# Altium footprint library Package_TO_SOT_SMD.PcbLib: 132 footprints (part 8 of 9)
Each footprint in its own frame and in the unit in brackets; x right, y up, seen from the top. Pads: shape width x height; smd on the part's side, far side on the other; paste and mask are expansions set on the pad; w line width, h text height; cw(c..) or ccw(c..) is an arc to the next point about the centre after c.
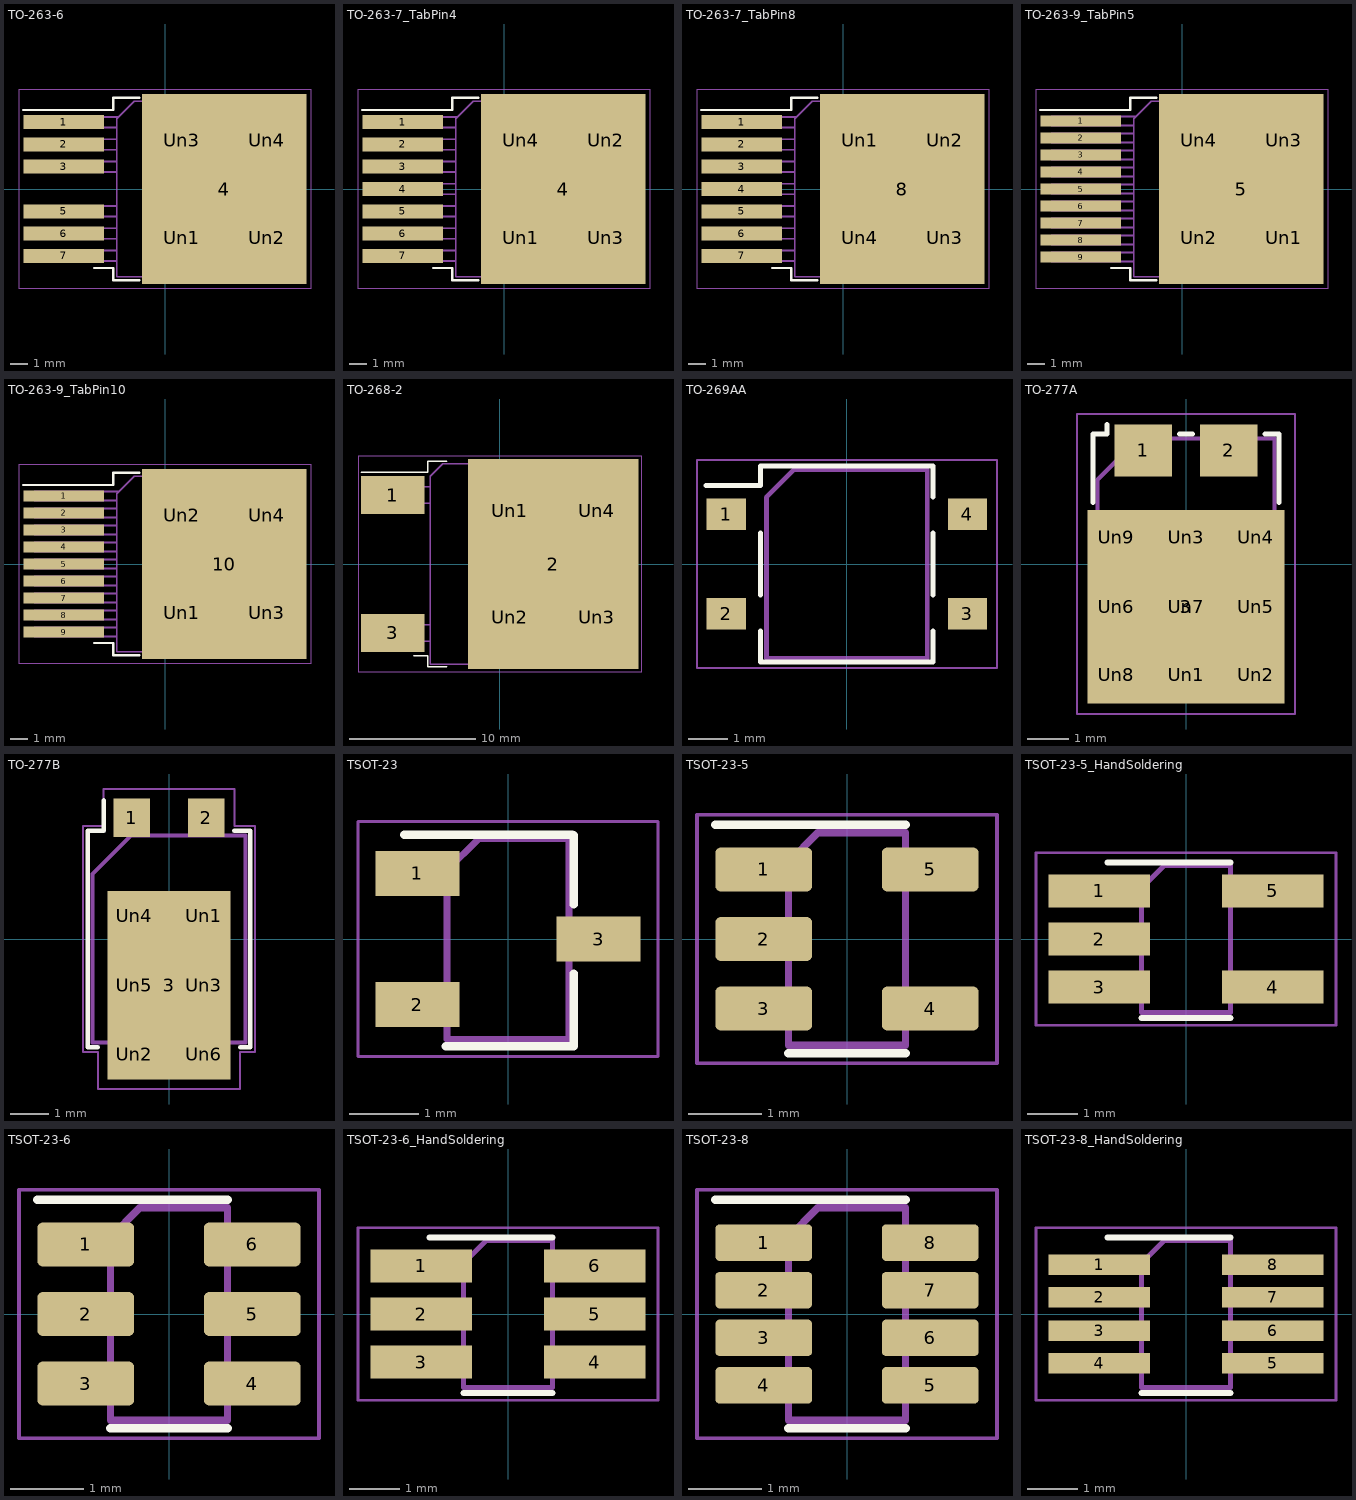
[diagram p7: the footprints below, top view; thin cyan lines are the x and y axes]

## TO-263-6 [mm]
pads (11):
  rect 4.6x0.8 smd: 1(-5.775,3.81) 2(-5.775,2.54) 3(-5.775,1.27) 5(-5.775,-1.27) 6(-5.775,-2.54) 7(-5.775,-3.81)
  rect 9.4x10.8 smd: 4(3.375,0)
  rect 4.55x5.25 on Top Paste: Un1(0.95,-2.775) Un2(5.8,-2.775) Un3(0.95,2.775) Un4(5.8,2.775)
F.SilkS:
  lines w0.12: -8.075,4.51 -2.95,4.51 -2.95,5.2 -1.45,5.2 ; -4.05,-4.51 -2.95,-4.51 -2.95,-5.2 -1.45,-5.2
F.CrtYd:
  lines w0.05: -8.32,-5.65 -8.32,5.65 8.32,5.65 8.32,-5.65 -8.32,-5.65
F.Fab:
  lines w0.1: -2.75,-4.11 -7.45,-4.11 -7.45,-3.51 -2.75,-3.51 ; -2.75,-2.84 -7.45,-2.84 -7.45,-2.24 -2.75,-2.24 ; -2.75,-1.57 -7.45,-1.57 -7.45,-0.97 -2.75,-0.97 ; -2.75,0.97 -7.45,0.97 -7.45,1.57 -2.75,1.57 ; -2.75,2.24 -7.45,2.24 -7.45,2.84 -2.75,2.84 ; -2.75,3.51 -7.45,3.51 -7.45,4.11 -2.64,4.11 ; 6.5,-5 -2.75,-5 -2.75,4 -1.75,5 6.5,5 ; 6.5,-5 6.5,5 ; 6.5,-5 7.5,-5 7.5,5 6.5,5
  text "'.Designator'" at -4.047,-0.84 h1

## TO-263-7_TabPin4 [mm]
pads (12):
  rect 4.6x0.8 smd: 1(-5.775,3.81) 2(-5.775,2.54) 3(-5.775,1.27) 4(-5.775,0) 5(-5.775,-1.27) 6(-5.775,-2.54) 7(-5.775,-3.81)
  rect 9.4x10.8 smd: 4(3.375,0)
  rect 4.55x5.25 on Top Paste: Un1(0.95,-2.775) Un2(5.8,2.775) Un3(5.8,-2.775) Un4(0.95,2.775)
F.SilkS:
  lines w0.12: -8.075,4.51 -2.95,4.51 -2.95,5.2 -1.45,5.2 ; -4.05,-4.51 -2.95,-4.51 -2.95,-5.2 -1.45,-5.2
F.CrtYd:
  lines w0.05: -8.32,-5.65 8.32,-5.65 8.32,5.65 -8.32,5.65 -8.32,-5.65
F.Fab:
  lines w0.1: -2.75,-4.11 -7.45,-4.11 -7.45,-3.51 -2.75,-3.51 ; -2.75,-2.84 -7.45,-2.84 -7.45,-2.24 -2.75,-2.24 ; -2.75,-1.57 -7.45,-1.57 -7.45,-0.97 -2.75,-0.97 ; -2.75,-0.3 -7.45,-0.3 -7.45,0.3 -2.75,0.3 ; -2.75,0.97 -7.45,0.97 -7.45,1.57 -2.75,1.57 ; -2.75,2.24 -7.45,2.24 -7.45,2.84 -2.75,2.84 ; -2.75,3.51 -7.45,3.51 -7.45,4.11 -2.64,4.11 ; 6.5,-5 -2.75,-5 -2.75,4 -1.75,5 6.5,5 ; 6.5,-5 7.5,-5 7.5,5 6.5,5 ; 6.5,-5 6.5,5
  text "'.Designator'" at -4.047,-0.84 h1

## TO-263-7_TabPin8 [mm]
pads (12):
  rect 4.6x0.8 smd: 1(-5.775,3.81) 2(-5.775,2.54) 3(-5.775,1.27) 4(-5.775,0) 5(-5.775,-1.27) 6(-5.775,-2.54) 7(-5.775,-3.81)
  rect 9.4x10.8 smd: 8(3.375,0)
  rect 4.55x5.25 on Top Paste: Un1(0.95,2.775) Un2(5.8,2.775) Un3(5.8,-2.775) Un4(0.95,-2.775)
F.SilkS:
  lines w0.12: -8.075,4.51 -2.95,4.51 -2.95,5.2 -1.45,5.2 ; -4.05,-4.51 -2.95,-4.51 -2.95,-5.2 -1.45,-5.2
F.CrtYd:
  lines w0.05: -8.32,-5.65 8.32,-5.65 8.32,5.65 -8.32,5.65 -8.32,-5.65
F.Fab:
  lines w0.1: -2.75,-4.11 -7.45,-4.11 -7.45,-3.51 -2.75,-3.51 ; -2.75,-2.84 -7.45,-2.84 -7.45,-2.24 -2.75,-2.24 ; -2.75,-1.57 -7.45,-1.57 -7.45,-0.97 -2.75,-0.97 ; -2.75,-0.3 -7.45,-0.3 -7.45,0.3 -2.75,0.3 ; -2.75,0.97 -7.45,0.97 -7.45,1.57 -2.75,1.57 ; -2.75,2.24 -7.45,2.24 -7.45,2.84 -2.75,2.84 ; -2.75,3.51 -7.45,3.51 -7.45,4.11 -2.64,4.11 ; 6.5,-5 7.5,-5 7.5,5 6.5,5 ; 6.5,-5 6.5,5 ; 6.5,-5 -2.75,-5 -2.75,4 -1.75,5 6.5,5
  text "'.Designator'" at -4.047,-0.84 h1

## TO-263-9_TabPin5 [mm]
pads (14):
  rect 4.6x0.61 smd: 1(-5.775,3.88) 2(-5.775,2.91) 3(-5.775,1.94) 4(-5.775,0.97) 5(-5.775,0) 6(-5.775,-0.97) 7(-5.775,-1.94) 8(-5.775,-2.91) 9(-5.775,-3.88)
  rect 9.4x10.8 smd: 5(3.375,0)
  rect 4.55x5.25 on Top Paste: Un1(5.8,-2.775) Un2(0.95,-2.775) Un3(5.8,2.775) Un4(0.95,2.775)
F.SilkS:
  lines w0.12: -8.075,4.51 -2.95,4.51 -2.95,5.2 -1.45,5.2 ; -4.05,-4.51 -2.95,-4.51 -2.95,-5.2 -1.45,-5.2
F.CrtYd:
  lines w0.05: -8.32,-5.65 -8.32,5.65 8.32,5.65 8.32,-5.65 -8.32,-5.65
F.Fab:
  lines w0.1: -2.75,-4.135 -7.45,-4.135 -7.45,-3.625 -2.75,-3.625 ; -2.75,-3.165 -7.45,-3.165 -7.45,-2.655 -2.75,-2.655 ; -2.75,-2.195 -7.45,-2.195 -7.45,-1.685 -2.75,-1.685 ; -2.75,-1.225 -7.45,-1.225 -7.45,-0.715 -2.75,-0.715 ; -2.75,-0.255 -7.45,-0.255 -7.45,0.255 -2.75,0.255 ; -2.75,0.715 -7.45,0.715 -7.45,1.225 -2.75,1.225 ; -2.75,1.685 -7.45,1.685 -7.45,2.195 -2.75,2.195 ; -2.75,2.655 -7.45,2.655 -7.45,3.165 -2.75,3.165 ; -2.75,3.625 -7.45,3.625 -7.45,4.135 -2.615,4.135 ; 6.5,-5 7.5,-5 7.5,5 6.5,5 ; 6.5,-5 6.5,5 ; 6.5,-5 -2.75,-5 -2.75,4 -1.75,5 6.5,5
  text "'.Designator'" at -4.047,-0.84 h1

## TO-263-9_TabPin10 [mm]
pads (14):
  rect 4.6x0.61 smd: 1(-5.775,3.88) 2(-5.775,2.91) 3(-5.775,1.94) 4(-5.775,0.97) 5(-5.775,0) 6(-5.775,-0.97) 7(-5.775,-1.94) 8(-5.775,-2.91) 9(-5.775,-3.88)
  rect 9.4x10.8 smd: 10(3.375,0)
  rect 4.55x5.25 on Top Paste: Un1(0.95,-2.775) Un2(0.95,2.775) Un3(5.8,-2.775) Un4(5.8,2.775)
F.SilkS:
  lines w0.12: -8.075,4.51 -2.95,4.51 -2.95,5.2 -1.45,5.2 ; -4.05,-4.51 -2.95,-4.51 -2.95,-5.2 -1.45,-5.2
F.CrtYd:
  lines w0.05: -8.32,-5.65 -8.32,5.65 8.32,5.65 8.32,-5.65 -8.32,-5.65
F.Fab:
  lines w0.1: -2.75,-4.135 -7.45,-4.135 -7.45,-3.625 -2.75,-3.625 ; -2.75,-3.165 -7.45,-3.165 -7.45,-2.655 -2.75,-2.655 ; -2.75,-2.195 -7.45,-2.195 -7.45,-1.685 -2.75,-1.685 ; -2.75,-1.225 -7.45,-1.225 -7.45,-0.715 -2.75,-0.715 ; -2.75,-0.255 -7.45,-0.255 -7.45,0.255 -2.75,0.255 ; -2.75,0.715 -7.45,0.715 -7.45,1.225 -2.75,1.225 ; -2.75,1.685 -7.45,1.685 -7.45,2.195 -2.75,2.195 ; -2.75,2.655 -7.45,2.655 -7.45,3.165 -2.75,3.165 ; -2.75,3.625 -7.45,3.625 -7.45,4.135 -2.615,4.135 ; 6.5,-5 7.5,-5 7.5,5 6.5,5 ; 6.5,-5 -2.75,-5 -2.75,4 -1.75,5 6.5,5 ; 6.5,-5 6.5,5
  text "'.Designator'" at -4.047,-0.84 h1

## TO-268-2 [mm]
pads (7):
  rect 5x3 smd: 1(-8.475,5.45) 3(-8.475,-5.45)
  rect 13.5x16.6 smd: 2(4.225,0)
  rect 6.6x8.15 on Top Paste: Un1(0.775,4.225) Un2(0.775,-4.225) Un3(7.675,-4.225) Un4(7.675,4.225)
F.SilkS:
  lines w0.12: -10.975,7.25 -5.7,7.25 -5.7,8.15 -4.2,8.15 ; -6.8,-7.25 -5.7,-7.25 -5.7,-8.15 -4.2,-8.15
F.CrtYd:
  lines w0.05: -11.23,-8.55 -11.23,8.55 11.23,8.55 11.23,-8.55 -11.23,-8.55
F.Fab:
  lines w0.1: -5.5,-6.1 -9.4,-6.1 -9.4,-4.8 -5.5,-4.8 ; -5.5,4.8 -9.4,4.8 -9.4,6.1 -5.5,6.1 ; 8.5,-7.95 8.5,7.95 ; 8.5,-7.95 9.5,-7.95 9.5,7.95 8.5,7.95 ; 8.5,-7.95 -5.5,-7.95 -5.5,6.95 -4.5,7.95 8.5,7.95
  text "'.Designator'" at -4.047,-0.84 h1

## TO-269AA [mm]
pads (4):
  rect 1x0.8 smd: 1(-3.075,1.27) 2(-3.075,-1.27) 3(3.075,-1.27) 4(3.075,1.27)
F.SilkS:
  lines w0.12: -3.6,2 -2.2,2 -2.2,2.5 2.2,2.5 2.2,1.7 ; -2.2,-1.7 -2.2,-2.5 2.2,-2.5 2.2,-1.7 ; -2.2,-0.8 -2.2,0.8 ; 2.2,-0.8 2.2,0.8
F.CrtYd:
  lines w0.05: -3.82,-2.65 3.83,-2.65 3.83,2.65 -3.82,2.65 -3.82,-2.65
F.Fab:
  lines w0.12: -2.05,-2.4 -2.05,1.7 -1.35,2.4 2.05,2.4 2.05,-2.4 -2.05,-2.4
  text "'.Designator'" at -4.047,-0.775 h1

## TO-277A [mm]
pads (12):
  rect 1.4x1.27 smd: 1(-1.04,2.765) 2(1.04,2.765)
  rect 4.8x4.72 smd: 3(0,-1.04)
  rect 1.25x1.2 on Top Paste: Un1(0,-2.7) Un2(1.7,-2.7) Un3(0,0.65) Un4(1.7,0.65) Un5(1.7,-1.04) Un6(-1.7,-1.04) Un7(0,-1.04) Un8(-1.7,-2.7) Un9(-1.7,0.65)
F.SilkS:
  lines w0.12: -2.26,1.5 -2.26,3.16 -1.92,3.16 -1.92,3.4 ; -0.16,3.16 0.16,3.16 ; 1.92,3.16 2.26,3.16 2.26,1.5
F.CrtYd:
  lines w0.05: -2.65,-3.65 2.65,-3.65 2.65,3.65 -2.65,3.65 -2.65,-3.65
F.Fab:
  lines w0.1: -2.15,-3.05 2.15,-3.05 2.15,3.05 -1.15,3.05 -2.15,2.05 -2.15,-3.05
  text "'.Designator'" at -4.047,-0.84 h1

## TO-277B [mm]
pads (9):
  rect 0.95x1 smd: 1(-0.97,3.15) 2(0.97,3.15)
  rect 3.2x4.9 smd: 3(0,-1.2)
  rect 1.3x1.2 on Top Paste: Un1(0.9,0.6) Un2(-0.9,-3) Un3(0.9,-1.2) Un4(-0.9,0.6) Un5(-0.9,-1.2) Un6(0.9,-3)
F.SilkS:
  lines w0.12: -1.85,-2.81 -2.11,-2.81 -2.11,2.81 -1.7,2.81 -1.7,3.6 ; 1.7,2.81 2.11,2.81 2.11,-2.81 1.85,-2.81
F.CrtYd:
  lines w0.05: -2.24,-2.94 -1.85,-2.94 -1.85,-3.9 1.85,-3.9 1.85,-2.94 2.24,-2.94 2.24,2.94 1.7,2.94 1.7,3.9 -1.7,3.9 -1.7,2.94 -2.24,2.94 -2.24,-2.94
F.Fab:
  lines w0.1: -1,2.69 1.99,2.69 1.99,-2.69 -1.99,-2.69 -1.99,1.69 -0.99,2.69
  text "'.Designator'" at -3.657,-0.771 h0.9

## TSOT-23 [mm]
pads (3):
  rect 1.22x0.65 smd: 1(-1.31,0.95) 2(-1.31,-0.95) 3(1.31,0)
F.SilkS:
  lines w0.12: -1.5,1.51 0.93,1.51 ; -0.9,-1.55 0.95,-1.55 0.95,-0.5 ; 0.95,0.5 0.95,1.5
F.CrtYd:
  lines w0.05: -2.17,-1.7 -2.17,1.7 2.17,1.7 2.17,-1.7 -2.17,-1.7
F.Fab:
  lines w0.1: -0.88,-1.45 0.88,-1.45 0.88,1.45 -0.43,1.45 -0.88,1 -0.88,-1.45
  text "'.Designator'" at 0.42,-2.023 h0.5

## TSOT-23-5 [mm]
pads (5):
  rrect25% 1.325x0.6 smd: 1(-1.138,0.95) 2(-1.138,0) 3(-1.138,-0.95) 4(1.138,-0.95) 5(1.138,0.95)
F.SilkS:
  lines w0.12: -1.8,1.56 0,1.56 0.8,1.56 ; -0.8,-1.56 0,-1.56 0.8,-1.56
F.CrtYd:
  lines w0.05: -2.05,-1.7 -2.05,1.7 2.05,1.7 2.05,-1.7 -2.05,-1.7
F.Fab:
  lines w0.1: -0.8,-1.45 0.8,-1.45 0.8,1.45 -0.4,1.45 -0.8,1.05 -0.8,-1.45
  text "'.Designator'" at -1.619,-0.336 h0.4

## TSOT-23-5_HandSoldering [mm]
pads (5):
  rect 2x0.65 smd: 1(-1.71,0.95) 2(-1.71,0) 3(-1.71,-0.95) 4(1.71,-0.95) 5(1.71,0.95)
F.SilkS:
  lines w0.12: -1.55,1.51 0.88,1.51 ; -0.88,-1.56 0.88,-1.56
F.CrtYd:
  lines w0.05: -2.96,-1.7 2.96,-1.7 2.96,1.7 -2.96,1.7 -2.96,-1.7
F.Fab:
  lines w0.1: -0.88,-1.45 -0.88,1 -0.43,1.45 0.88,1.45 0.88,-1.45 -0.88,-1.45
  text "'.Designator'" at 0.42,-2.023 h0.5

## TSOT-23-6 [mm]
pads (6):
  rrect25% 1.325x0.6 smd: 1(-1.138,0.95) 2(-1.138,0) 3(-1.138,-0.95) 4(1.138,-0.95) 5(1.138,0) 6(1.138,0.95)
F.SilkS:
  lines w0.12: -1.8,1.56 0,1.56 0.8,1.56 ; -0.8,-1.56 0,-1.56 0.8,-1.56
F.CrtYd:
  lines w0.05: -2.05,-1.7 -2.05,1.7 2.05,1.7 2.05,-1.7 -2.05,-1.7
F.Fab:
  lines w0.1: -0.8,-1.45 0.8,-1.45 0.8,1.45 -0.4,1.45 -0.8,1.05 -0.8,-1.45
  text "'.Designator'" at -1.619,-0.336 h0.4

## TSOT-23-6_HandSoldering [mm]
pads (6):
  rect 2x0.65 smd: 1(-1.71,0.95) 2(-1.71,0) 3(-1.71,-0.95) 4(1.71,-0.95) 5(1.71,0) 6(1.71,0.95)
F.SilkS:
  lines w0.12: -1.55,1.51 0.88,1.51 ; -0.88,-1.56 0.88,-1.56
F.CrtYd:
  lines w0.05: -2.96,-1.7 2.96,-1.7 2.96,1.7 -2.96,1.7 -2.96,-1.7
F.Fab:
  lines w0.1: -0.88,-1.45 0.88,-1.45 0.88,1.45 -0.43,1.45 -0.88,1 -0.88,-1.45
  text "'.Designator'" at 0.42,-2.023 h0.5

## TSOT-23-8 [mm]
pads (8):
  rrect25% 1.325x0.5 smd: 1(-1.138,0.975) 2(-1.138,0.325) 3(-1.138,-0.325) 4(-1.138,-0.975) 5(1.138,-0.975) 6(1.138,-0.325) 7(1.138,0.325) 8(1.138,0.975)
F.SilkS:
  lines w0.12: -1.8,1.56 0,1.56 0.8,1.56 ; -0.8,-1.56 0,-1.56 0.8,-1.56
F.CrtYd:
  lines w0.05: -2.05,-1.7 -2.05,1.7 2.05,1.7 2.05,-1.7 -2.05,-1.7
F.Fab:
  lines w0.1: -0.8,-1.45 0.8,-1.45 0.8,1.45 -0.4,1.45 -0.8,1.05 -0.8,-1.45
  text "'.Designator'" at -1.619,-0.336 h0.4

## TSOT-23-8_HandSoldering [mm]
pads (8):
  rect 2x0.4 smd: 1(-1.71,0.97) 2(-1.71,0.33) 3(-1.71,-0.33) 4(-1.71,-0.97) 5(1.71,-0.97) 6(1.71,-0.33) 7(1.71,0.33) 8(1.71,0.97)
F.SilkS:
  lines w0.12: -1.55,1.51 0.88,1.51 ; -0.88,-1.56 0.88,-1.56
F.CrtYd:
  lines w0.05: -2.96,-1.7 2.96,-1.7 2.96,1.7 -2.96,1.7 -2.96,-1.7
F.Fab:
  lines w0.1: -0.88,-1.45 -0.88,1 -0.43,1.45 0.88,1.45 0.88,-1.45 -0.88,-1.45
  text "'.Designator'" at 0.42,-2.023 h0.5